# EAGLE library part TC2030-IDC (library Connectors > Other)
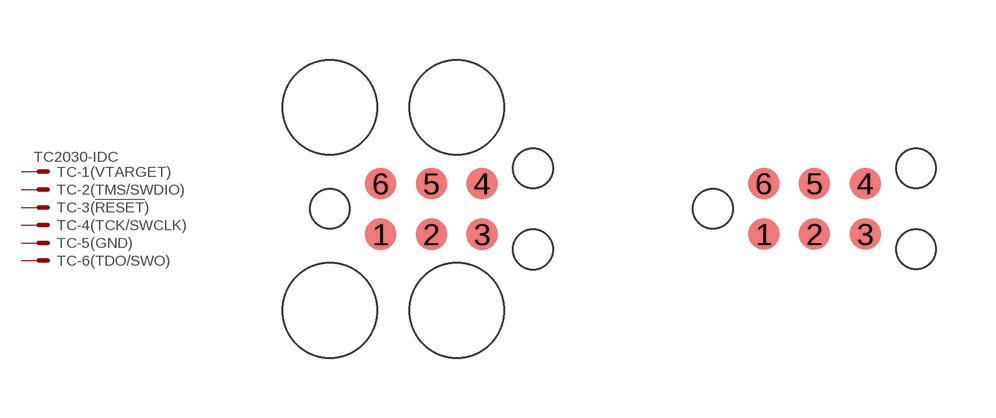
[diagram p1: symbol with the pads of TC2030-IDC; footprints TC2030-IDC, TC2030-IDC-NL]

Designator prefix TC; gates -1(VTARGET)=KV -2(TMS/SWDIO)=K -5(GND)=K -4(TCK/SWCLK)=K -6(TDO/SWO)=K -3(!RESET!)=K

## TC2030-IDC  [TC2030-IDC]
1  -1(VTARGET):S  pas
2  -2(TMS/SWDIO):S  pas
3  -3(!RESET!):S  pas
4  -4(TCK/SWCLK):S  pas
5  -5(GND):S  pas
6  -6(TDO/SWO):S  pas

## TC2030-IDC-NL  [TC2030-IDC-NL]
Pads as for TC2030-IDC

## Footprint TC2030-IDC (pad centres in mm)
smd 0.787 x 0.787: 1 -1.27,-0.635; 2 0,-0.635; 3 1.27,-0.635; 4 1.27,0.635; 5 0,0.635; 6 -1.27,0.635
hole 0.991 at -2.54,0
hole 0.991 at 2.54,1.016
hole 0.991 at 2.54,-1.016
hole 2.375 at -2.54,2.54
hole 2.375 at -2.54,-2.54
hole 2.375 at 0.635,2.54
hole 2.375 at 0.635,-2.54

## Footprint TC2030-IDC-NL (pad centres in mm)
smd 0.787 x 0.787: 1 -1.27,-0.635; 2 0,-0.635; 3 1.27,-0.635; 4 1.27,0.635; 5 0,0.635; 6 -1.27,0.635
hole 0.991 at -2.54,0
hole 0.991 at 2.54,1.016
hole 0.991 at 2.54,-1.016